# EAGLE library part DIGITAL0-7 (library AtoG)
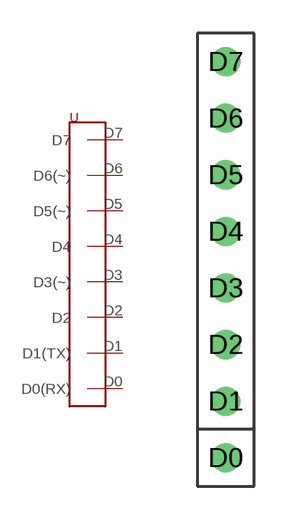
[diagram p1: symbol with the pads of DIGITAL0-7; footprint DIGITAL0-7]

Designator prefix -

## DIGITAL0-7  [DIGITAL0-7]
D0  D0(RX)
D1  D1(TX)
D2  D2
D3  D3(~)
D4  D4
D5  D5(~)
D6  D6(~)
D7  D7

## Footprint DIGITAL0-7 (pad centres in mm)
drill 0.8: D0 0,-8.89; D1 0,-6.35; D2 0,-3.81; D3 0,-1.27; D4 0,1.27; D5 0,3.81; D6 0,6.35; D7 0,8.89